# Altium footprint library MD20.PcbLib: 1 footprints
Each footprint in its own frame and in the unit in brackets; x right, y up, seen from the top. Pads: shape width x height; smd on the part's side, far side on the other; paste and mask are expansions set on the pad; w line width, h text height; cw(c..) or ccw(c..) is an arc to the next point about the centre after c.
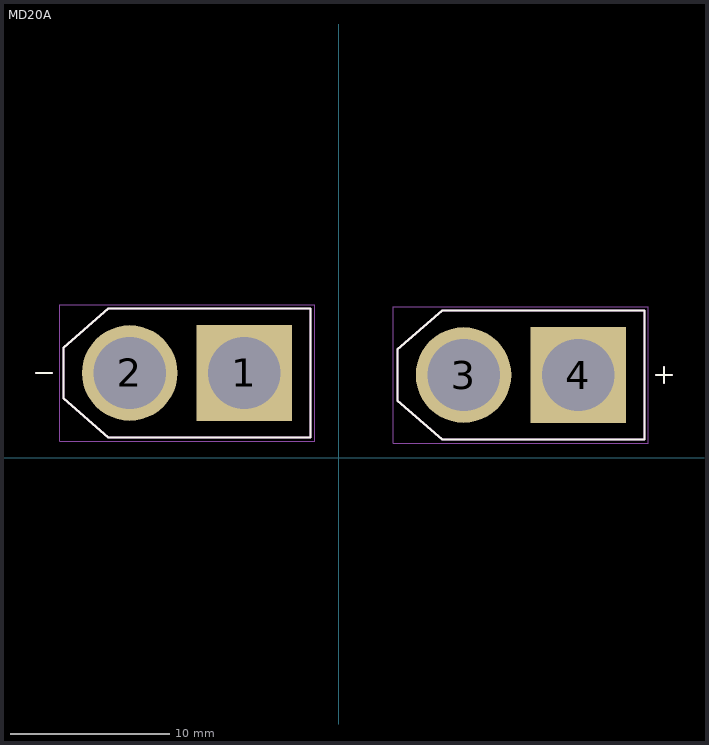
[diagram p0: the footprint, top view; thin cyan lines are the x and y axes]

## MD20A [mm]
pads (4):
  rect 6x6 / inner round 6 / far side rect 6x6 hole 4.55: 1(-5.925,5.334) 4(15.03,5.207)
  round 6 hole 4.55: 2(-13.125,5.334) 3(7.83,5.207)
Top Overlay:
  lines w0.127: -19.025,5.334 -18.025,5.334 ; 19.93,5.207 20.93,5.207 ; 20.43,4.707 20.43,5.707 ; -17.275,3.734 -14.475,1.284 -1.775,1.284 -1.775,9.384 -14.475,9.384 -17.275,6.934 -17.275,3.734 ; 3.68,3.607 3.68,6.807 6.48,9.257 19.18,9.257 19.18,1.157 6.48,1.157 3.68,3.607
Mechanical 13:
  lines w0.127: -19.025,5.334 -18.025,5.334 ; 19.93,5.207 20.93,5.207 ; 20.43,4.707 20.43,5.707 ; -17.275,3.734 -14.475,1.284 -1.775,1.284 -1.775,9.384 -14.475,9.384 -17.275,6.934 -17.275,3.734 ; 3.68,3.607 6.48,1.157 19.18,1.157 19.18,9.257 6.48,9.257 3.68,6.807 3.68,3.607
Mechanical 15:
  lines w0.05: -17.525,1.034 -1.525,1.034 -1.525,9.634 -17.525,9.634 -17.525,1.034 ; 3.43,0.907 3.43,9.507 19.43,9.507 19.43,0.907 3.43,0.907
3D body "step_temp.STEP": height 16, standoff -4.5, extent 3.68,1.157 19.18,9.257
3D body "step_temp.STEP": height 16, standoff -4.5, extent -17.275,1.284 -1.775,9.384